# EAGLE library part SAMD21G (library IntegratedLib)
Microcontrolador microchip SAMD21G (TQFP-48)
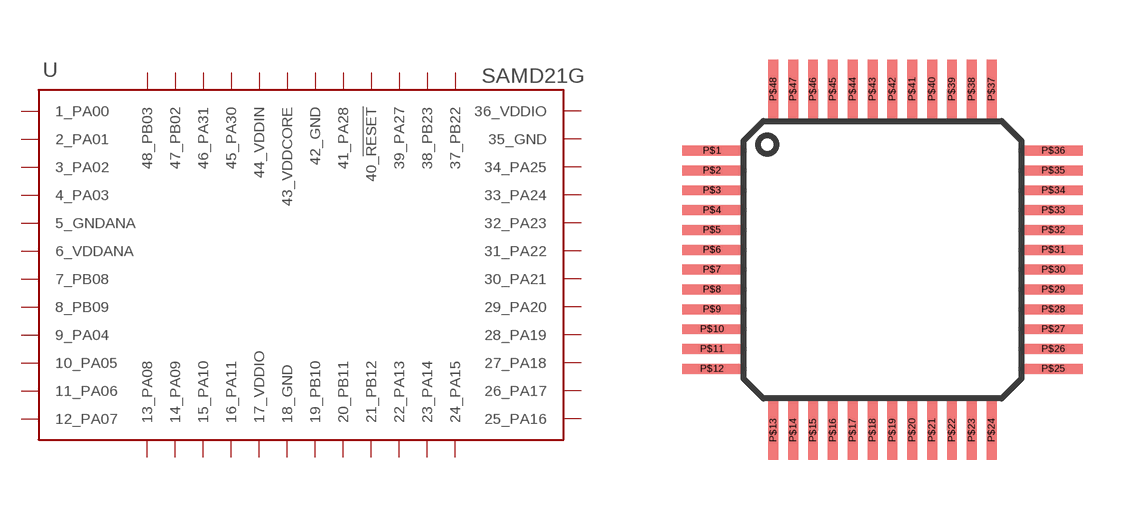
[diagram p40: symbol with the pads of TQFP-48; footprint TQFP-48]

Designator prefix U

## SAMD21G (FABRICANTE: MICROCHIP; PARTNUMBER: SAMD21G; TIPO: CIRCUITO INTEGRADO)  [TQFP-48]
P$1  1_PA00  oc
P$2  2_PA01  oc
P$3  3_PA02
P$4  4_PA03
P$5  5_GNDANA  pwr
P$6  6_VDDANA  pwr
P$7  7_PB08
P$8  8_PB09
P$9  9_PA04
P$10  10_PA05
P$11  11_PA06
P$12  12_PA07
P$13  13_PA08
P$14  14_PA09
P$15  15_PA10
P$16  16_PA11
P$17  17_VDDIO  pwr
P$18  18_GND  pwr
P$19  19_PB10
P$20  20_PB11
P$21  21_PB12
P$22  22_PA13
P$23  23_PA14
P$24  24_PA15
P$25  25_PA16
P$26  26_PA17
P$27  27_PA18
P$28  28_PA19
P$29  29_PA20
P$30  30_PA21
P$31  31_PA22
P$32  32_PA23
P$33  33_PA24
P$34  34_PA25
P$35  35_GND  pwr
P$36  36_VDDIO  pwr
P$37  37_PB22
P$38  38_PB23
P$39  39_PA27
P$40  40_!RESET
P$41  41_PA28
P$42  42_GND  pwr
P$43  43_VDDCORE  pwr
P$44  44_VDDIN  pwr
P$45  45_PA30
P$46  46_PA31
P$47  47_PB02
P$48  48_PB03

## Footprint TQFP-48 (pad centres in mm)
smd 1.5 x 0.25: P$1 -4.3,2.75; P$2 -4.3,2.25; P$3 -4.3,1.75; P$4 -4.3,1.25; P$5 -4.3,0.75; P$6 -4.3,0.25; P$7 -4.3,-0.25; P$8 -4.3,-0.75; P$9 -4.3,-1.25; P$10 -4.3,-1.75; P$11 -4.3,-2.25; P$12 -4.3,-2.75; P$25 4.3,-2.75; P$26 4.3,-2.25; P$27 4.3,-1.75; P$28 4.3,-1.25; P$29 4.3,-0.75; P$30 4.3,-0.25; P$31 4.3,0.25; P$32 4.3,0.75; P$33 4.3,1.25; P$34 4.3,1.75; P$35 4.3,2.25; P$36 4.3,2.75
smd 0.25 x 1.5: P$13 -2.75,-4.3; P$14 -2.25,-4.3; P$15 -1.75,-4.3; P$16 -1.25,-4.3; P$17 -0.75,-4.3; P$18 -0.25,-4.3; P$19 0.25,-4.3; P$20 0.75,-4.3; P$21 1.25,-4.3; P$22 1.75,-4.3; P$23 2.25,-4.3; P$24 2.75,-4.3; P$37 2.75,4.3; P$38 2.25,4.3; P$39 1.75,4.3; P$40 1.25,4.3; P$41 0.75,4.3; P$42 0.25,4.3; P$43 -0.25,4.3; P$44 -0.75,4.3; P$45 -1.25,4.3; P$46 -1.75,4.3; P$47 -2.25,4.3; P$48 -2.75,4.3